# EAGLE library part SC0918 (library SC0918)
Check availability <https://pricing.snapeda.com/parts/SC0918/Raspberry%20Pi/view-part?ref=eda>
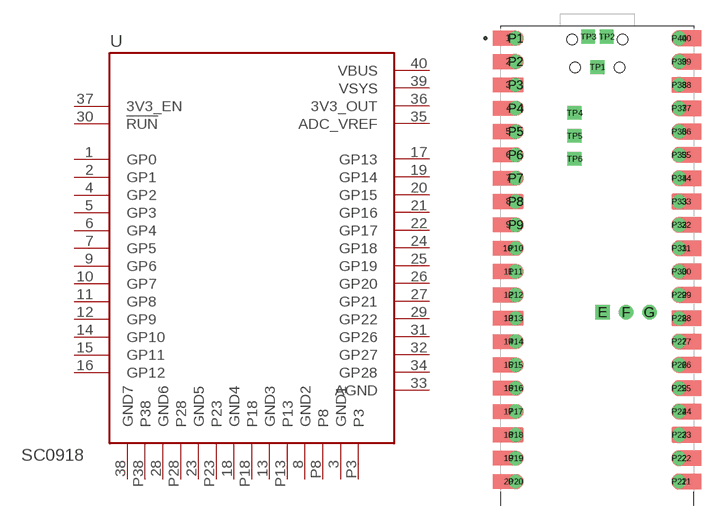
[diagram p0: symbol with the pads of MODULE_SC0918; footprint MODULE_SC0918]

Designator prefix U

## SC0918 (AVAILABILITY: In Stock; CHECK_PRICES: https://www.snapeda.com/parts/SC0918/Raspberry+Pi/view-part/?ref=eda; DESCRIPTION: - RP2040 Transceiver; 802.11 b/g/n (Wi-Fi, WiFi, WLAN), Bluetooth® 5.x 2.4GHz Evaluation Board; MF: Raspberry Pi; MP: SC0918; PACKAGE: None; PRICE: None; SNAPEDA_LINK: https://www.snapeda.com/parts/SC0918/Raspberry+Pi/view-part/?ref=snap)  [MODULE_SC0918]
1  GP0
2  GP1
3  GND1  pwr
4  GP2
5  GP3
6  GP4
7  GP5
8  GND2  pwr
9  GP6
10  GP7
11  GP8
12  GP9
13  GND3  pwr
14  GP10
15  GP11
16  GP12
17  GP13
18  GND4  pwr
19  GP14
20  GP15
21  GP16
22  GP17
23  GND5  pwr
24  GP18
25  GP19
26  GP20
27  GP21
28  GND6  pwr
29  GP22
30  !RUN  in
31  GP26
32  GP27
33  AGND  pwr
34  GP28
35  ADC_VREF  pwr
36  3V3_OUT  pwr
37  3V3_EN  in
38  GND7  pwr
39  VSYS  pwr
40  VBUS  pwr
P3  P3  pwr
P8  P8  pwr
P13  P13  pwr
P18  P18  pwr
P23  P23  pwr
P28  P28  pwr
P38  P38  pwr

## Footprint MODULE_SC0918 (pad centres in mm)
smd 1 x 1: 1 -9.69,24.13; 2 -9.69,21.59; 3 -9.69,19.05; 4 -9.69,16.51; 5 -9.69,13.97; 6 -9.69,11.43; 7 -9.69,8.89; 8 -9.69,6.35; 9 -9.69,3.81; 10 -9.79,1.27; 11 -9.69,-1.27; 12 -9.69,-3.81; 13 -9.69,-6.35; 14 -9.69,-8.89; 15 -9.69,-11.43; 16 -9.69,-13.97; 17 -9.69,-16.51; 18 -9.69,-19.05; 19 -9.69,-21.59; 20 -9.69,-24.13; 21 9.69,-24.13; 22 9.69,-21.59; 23 9.69,-19.05; 24 9.69,-16.51; 25 9.69,-13.97; 26 9.69,-11.43; 27 9.69,-8.89; 28 9.69,-6.35; 29 9.69,-3.81; 30 9.69,-1.27; 31 9.69,1.27; 32 9.69,3.81; 33 9.69,6.35; 34 9.69,8.89; 35 9.69,11.43; 36 9.69,13.97; 37 9.69,16.51; 38 9.69,19.05; 39 9.69,21.59; 40 9.69,24.13
drill 1 pad 1.575 square: E 0.584,-5.7
drill 1 pad 1.575: F 3.124,-5.7; G 5.664,-5.7
drill 1: P1 -8.89,24.13; P2 -8.89,21.59; P3 -8.89,19.05; P4 -8.89,16.51; P5 -8.89,13.97; P6 -8.89,11.43; P7 -8.89,8.89; P8 -8.89,6.35; P9 -8.89,3.81; P10 -8.89,1.27; P11 -8.89,-1.27; P12 -8.89,-3.81; P13 -8.89,-6.35; P14 -8.89,-8.89; P15 -8.89,-11.43; P16 -8.89,-13.97; P17 -8.89,-16.51; P18 -8.89,-19.05; P19 -8.89,-21.59; P20 -8.89,-24.13; P21 8.89,-24.13; P22 8.89,-21.59; P23 8.89,-19.05; P24 8.89,-16.51; P25 8.89,-13.97; P26 8.89,-11.43; P27 8.89,-8.89; P28 8.89,-6.35; P29 8.89,-3.81; P30 8.89,-1.27; P31 8.89,1.27; P32 8.89,3.81; P33 8.89,6.35; P34 8.89,8.89; P35 8.89,11.43; P36 8.89,13.97; P37 8.89,16.51; P38 8.89,19.05; P39 8.89,21.59; P40 8.89,24.13
drill 1 pad 1.5 square: TP1 0,21; TP2 1,24.3; TP3 -1,24.3; TP4 -2.5,16; TP5 -2.5,13.5; TP6 -2.5,11
hole 1.15 at -2.425,20.97
hole 1.15 at 2.425,20.97
hole 1.15 at -2.725,24
hole 1.15 at 2.725,24